# EAGLE library part 5227110 (library CON-Hirose-AON)
FFC connector 10pin bottom 1,0mm slide lock
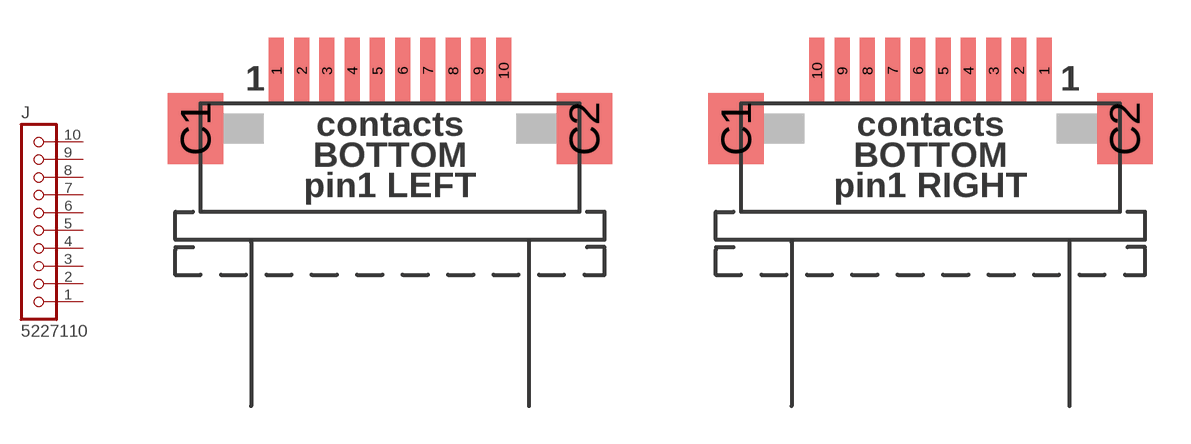
[diagram p8: symbol with the pads of 5227110/1.LEFT; footprints 5227110/1.LEFT, 5227110/1.RIGHT]

Designator prefix J

## 5227110/1.LEFT  [5227110/1.LEFT]
1  1  pas
2  2  pas
3  3  pas
4  4  pas
5  5  pas
6  6  pas
7  7  pas
8  8  pas
9  9  pas
10  10  pas

## 5227110/1.RIGHT  [5227110/1.RIGHT]
Pads as for 5227110/1.LEFT

## Footprint 5227110/1.LEFT (pad centres in mm)
10pin 1mm, contacts BOTTOM, pin1 LEFT
smd 0.6 x 2.6: 1 -4.5,3.3; 2 -3.5,3.3; 3 -2.5,3.3; 4 -1.5,3.3; 5 -0.5,3.3; 6 0.5,3.3; 7 1.5,3.3; 8 2.5,3.3; 9 3.5,3.3; 10 4.5,3.3
smd 2.2 x 2.8: C1 -7.7,1; C2 7.7,1

## Footprint 5227110/1.RIGHT (pad centres in mm)
10pin 1mm, contacts BOTTOM, pin1 RIGHT
smd 0.6 x 2.6: 1 4.5,3.3; 2 3.5,3.3; 3 2.5,3.3; 4 1.5,3.3; 5 0.5,3.3; 6 -0.5,3.3; 7 -1.5,3.3; 8 -2.5,3.3; 9 -3.5,3.3; 10 -4.5,3.3
smd 2.2 x 2.8: C1 -7.7,1; C2 7.7,1